# EAGLE library part FI-X30SSLA-HF (library SchlegelAr_Master)
JAE Electronics FI-X30SSLA-HF last modified: Armin Schlegel, 22.03.2014 http://de.mouser.com/ProductDetail/JAE-Electronics/FI-X30SSLA-HF/?qs=%2fha2pyFaduioZsvOJCeWcg109ZmKz2%2fupnzggFRdCcW4jqYF4CRRJw%3d%3d http://jae-connector.com/en/pdf_download_exec.cfm?param=SJ110033.pdf
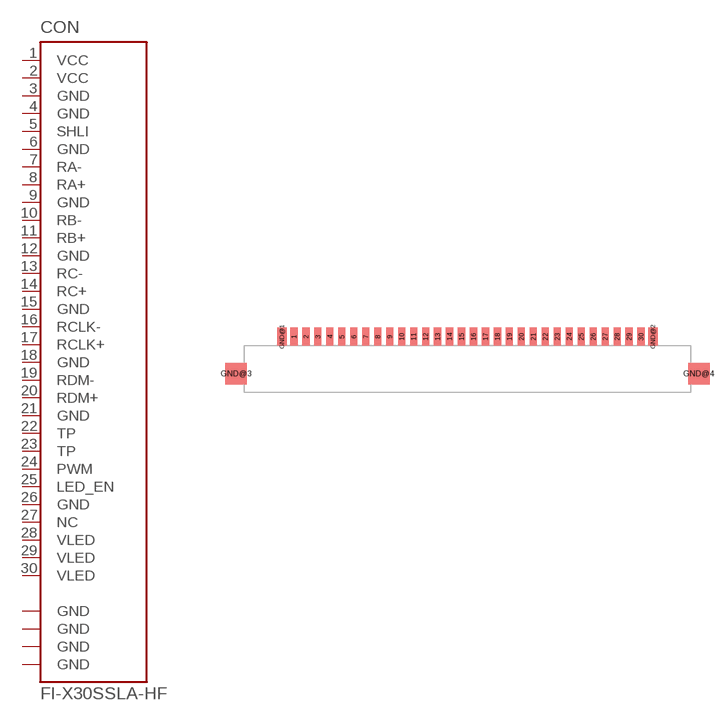
[diagram p0: symbol with the pads of FI-X30SSLA-HF; footprint FI-X30SSLA-HF]

Designator prefix CON

## FI-X30SSLA-HF  [FI-X30SSLA-HF]
1  VCC
2  VCC
3  GND
4  GND
5  SHLI
6  GND
7  RA-
8  RA+
9  GND
10  RB-
11  RB+
12  GND
13  RC-
14  RC+
15  GND
16  RCLK-
17  RCLK+
18  GND
19  RDM-
20  RDM+
21  GND
22  TP
23  TP
24  PWM
25  LED_EN
26  GND
27  NC
28  VLED
29  VLED
30  VLED
GND@1  GND  pwr
GND@2  GND  pwr
GND@3  GND  pwr
GND@4  GND  pwr

## Footprint FI-X30SSLA-HF (pad centres in mm)
smd 0.6 x 1.5: 1 -14.5,2.65; 2 -13.5,2.65; 3 -12.5,2.65; 4 -11.5,2.65; 5 -10.5,2.65; 6 -9.5,2.65; 7 -8.5,2.65; 8 -7.5,2.65; 9 -6.5,2.65; 10 -5.5,2.65; 11 -4.5,2.65; 12 -3.5,2.65; 13 -2.5,2.65; 14 -1.5,2.65; 15 -0.5,2.65; 16 0.5,2.65; 17 1.5,2.65; 18 2.5,2.65; 19 3.5,2.65; 20 4.5,2.65; 21 5.5,2.65; 22 6.5,2.65; 23 7.5,2.65; 24 8.5,2.65; 25 9.5,2.65; 26 10.5,2.65; 27 11.5,2.65; 28 12.5,2.65; 29 13.5,2.65; 30 14.5,2.65
smd 0.8 x 1.5: GND@1 -15.5,2.65; GND@2 15.5,2.65
smd 1.8 x 1.8: GND@3 -19.325,-0.45; GND@4 19.325,-0.45